# Altium footprint library MRS2500C6042FCT00.PcbLib: 1 footprints
Each footprint in its own frame and in the unit in brackets; x right, y up, seen from the top. Pads: shape width x height; smd on the part's side, far side on the other; paste and mask are expansions set on the pad; w line width, h text height; cw(c..) or ccw(c..) is an arc to the next point about the centre after c.
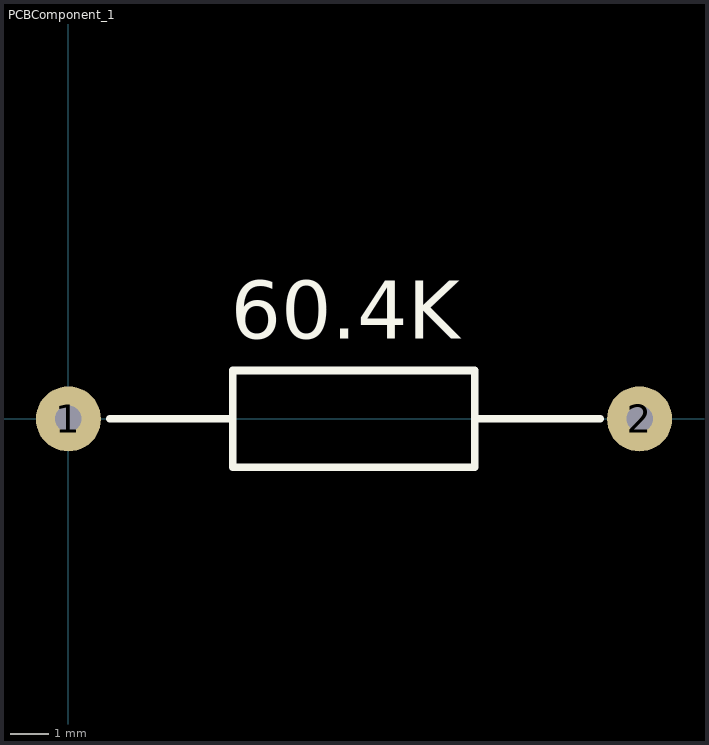
[diagram p0: the footprint, top view; thin cyan lines are the x and y axes]

## PCBComponent_1 [mm]
pads (2):
  round 1.71 hole 0.7: 1(0,0) 2(15,0)
Top Overlay:
  lines w0.2: 1.084,0 4.318,0 ; 4.318,1.23 4.318,-1.27 10.668,-1.27 10.668,1.27 4.318,1.27 ; 10.736,0 13.97,0
  text "60.4K" at 4.264,2.105 h1.52